# EAGLE library part TMP117 (library Lagopus_B_2)
Temperature Sensor TMP117x High-Accuracy, Low-Power, Digital Temperature Sensor With SMBus™- and I2C-Compatible Interface
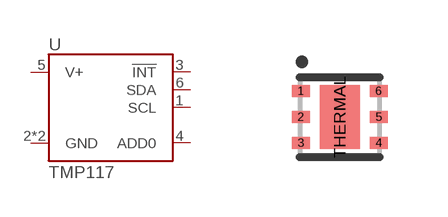
[diagram p1: symbol with the pads of TMP117; footprint TMP117]

Designator prefix U

## TMP117 (PROD_ID: IC-14700)  [TMP117]
1  SCL
2  GND
3  !INT
4  ADD0
5  V+  pwr
6  SDA
THERMAL  GND

## Footprint TMP117 (pad centres in mm)
smd 0.45 x 0.3: 1 -0.975,0.65; 2 -0.975,0; 3 -0.975,-0.65; 4 0.975,-0.65; 5 0.975,0; 6 0.975,0.65
smd 1 x 1.6: THERMAL 0,0